# Altium integrated library ASControlBoard.IntLib: 8 symbols
Pins are listed as number, name and electrical type; pins without a type are passive.

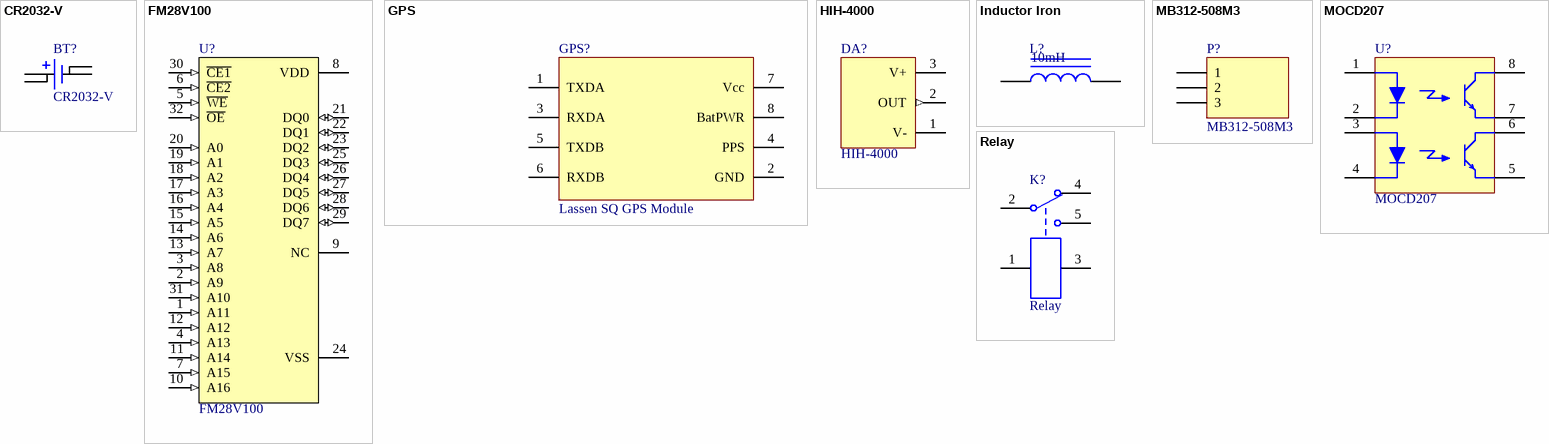
[diagram p0: symbols CR2032-V to Relay]

## CR2032-V
designator BT?
Battery; Published: 24-Mar-1999; LatestRevisionDate: 17-Jul-2002; LatestRevisionNote: Re-released for DXP Platform.; PackageReference: BAT-2; Publisher: Altium Limited
footprint CR2032HOLDER_VERT (Holder for CR2032 type Batteries)
pins: 1 +, 2 +, 3 -, 4 -

## FM28V100
designator U?
1Mbit Ferroelectric Nonvolatile RAM; Published: 24-Aug-2001; LatestRevisionDate: 17-Jul-2002; LatestRevisionNote: PCB footprint, 'DIP-P32/X1.2' replaced; Re-released for DXP Platform.; DatasheetVersion: Jul-1994; PackageReference: PMDIP32; Publisher: Altium Limited; PackageDescription: DIP; 32 Rectangular Pins; Row Space 15.24 mm; Pitch 2.54 mm; ComponentLink1Description: Manufacturer Link; ComponentLink1URL: http://www.st.com/; ComponentLink2Description: Datasheet; ComponentLink2URL: http://www.st.com/stonline/products/literature/ds/2426/m48z128.pdf
footprint TSSOP50P1340X120-32M (TSSOP, 32-Leads, Body 8,0x11,8mm (max), Pitch 0,50mm, IPC Low Density)
pins: 1 A11 (in), 2 A9 (in), 3 A8 (in), 4 A13 (in), 5 ~{WE} (in), 6 ~{CE2} (in), 7 A15 (in), 8 VDD (power), 9 NC, 10 A16 (in), 11 A14 (in), 12 A12 (in), 13 A7 (in), 14 A6 (in), 15 A5 (in), 16 A4 (in), 17 A3 (in), 18 A2 (in), 19 A1 (in), 20 A0 (in), 21 DQ0 (io), 22 DQ1 (io), 23 DQ2 (io), 24 VSS (power), 25 DQ3 (io), 26 DQ4 (io), 27 DQ5 (io), 28 DQ6 (io), 29 DQ7 (io), 30 ~{CE1} (in), 31 A10 (in), 32 ~{OE} (in)

## GPS
designator GPS?, comment Lassen SQ GPS Module
footprint GPS (Lassen SQ GPS Module Footprint)
pins: 1 TXDA, 2 GND, 3 RXDA, 4 PPS, 5 TXDB, 6 RXDB, 7 Vcc, 8 BatPWR

## HIH-4000
designator DA?
HIH-4000 Series Integrated Circuity Humidity Sensor; Published: 24-Mar-1999; LatestRevisionDate: 17-Jul-2002; LatestRevisionNote: Re-released for DXP Platform.; PackageReference: D-46_6A; Publisher: Altium Limited
footprint HIH-4000 (Thru-Hole; 3 Leads; 2.54 mm Pin Spacing)
pins: 1 V- (power), 2 OUT (out), 3 V+ (power)

## Inductor Iron
designator L?  value 10mH
Magnetic-Core Inductor; Published: 24-Mar-1999; LatestRevisionDate: 17-Jul-2002; LatestRevisionNote: Re-released for DXP Platform.; PackageReference: AXIAL-0.9; Publisher: Altium Limited
footprint AXIAL-0.9 (Axial Device, Thru-Hole; 2 Leads; 0.9 in Pin Spacing)
simulation model INDUCTOR (Inductor)
signal-integrity model Inductor Iron
footprint Inductor1
footprint Inductor2 (Inductor, Radial; Body 6.0 x 8 mm (Dia.xH typ); Pin Spacing 3.3 mm (typ))
pins: 1, 2

## MB312-508M3
designator P?
3-Pin terminal, 5.08 Pitch; LatestRevisionDate: 17-Jul-2002; LatestRevisionNote: Re-released for DXP Platform.; Publisher: Altium Limited
footprint MB312-508M3
pins: 1, 2, 3

## MOCD207
designator U?
Dual channel phototransistor / Optocouplers; LatestRevisionDate: 17-Jul-2002; LatestRevisionNote: Re-released for DXP Platform.; Publisher: Altium Limited
footprint SOIC127P600-8M (SOIC, 8-Leads, Body 4.9x3.9mm, Pitch 1.27mm, IPC Low Density)
signal-integrity model Connector
pins: 1 A1, 2 C1, 3 A2, 4 C2, 5 E2, 6 C2, 7 E1, 8 C1

## Relay
designator K?
Single-Pole Dual-Throw Relay; Published: 24-Mar-1999; LatestRevisionDate: 17-Jul-2002; LatestRevisionNote: Re-released for DXP Platform.; PackageReference: MODULE5B; Publisher: Altium Limited
footprint RELE-20-15
pins: 1, 2, 3, 4, 5